# Altium schematic symbol library FONT_TEST.SchLib: 1 symbol
Pins are listed as number, name and electrical type; pins without a type are passive.

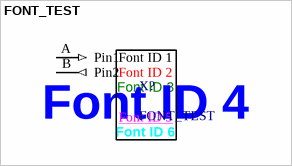
[diagram p0: symbol FONT_TEST]

## FONT_TEST
designator X?
Test different font IDs
pins: A Pin1 (in), B Pin2 (out)
text: Font ID 1; Font ID 2; Font ID 3; Font ID 4; Font ID 5; Font ID 6